# Altium footprint library 36103305S.PcbLib: 1 footprints
Each footprint in its own frame and in the unit in brackets; x right, y up, seen from the top. Pads: shape width x height; smd on the part's side, far side on the other; paste and mask are expansions set on the pad; w line width, h text height; cw(c..) or ccw(c..) is an arc to the next point about the centre after c.
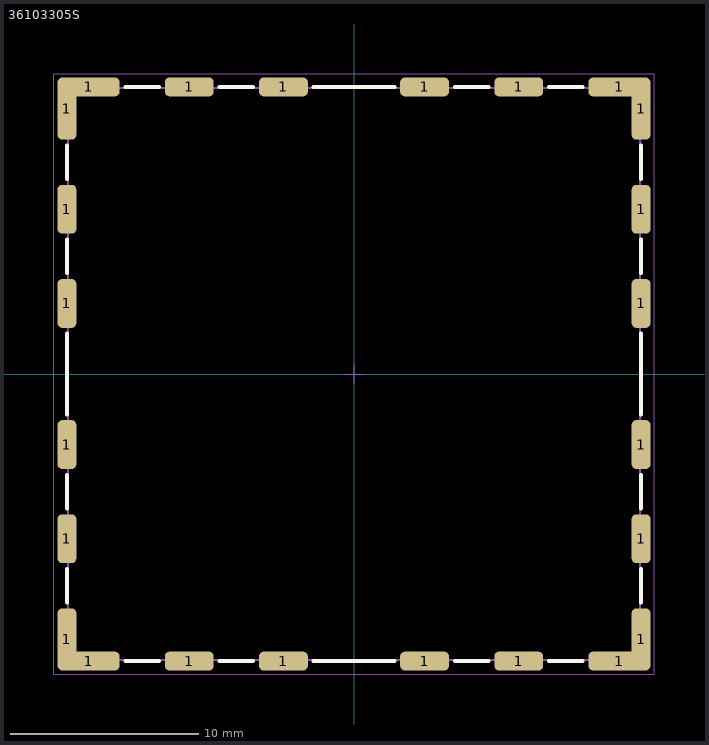
[diagram p0: the footprint, top view; thin cyan lines are the x and y axes]

## 36103305S [mm] "Shielding Cabinet, SMD Frame, 30.4x30.4mm"
height 3.3
pads (24):
  rrect50% 1x3.3 smd mask+0.1: 1(-15.25,-14.1) 1(-15.25,14.1) 1(15.25,-14.1) 1(15.25,14.1)
  rrect50% 1x2.6 smd mask+0.1: 1(-15.25,-8.75) 1(-15.25,-3.75) 1(-15.25,3.75) 1(-15.25,8.75) 1(15.25,-8.75) 1(15.25,-3.75) 1(15.25,3.75) 1(15.25,8.75)
  rrect50% 3.3x1 smd mask+0.1: 1(-14.1,-15.25) 1(-14.1,15.25) 1(14.1,-15.25) 1(14.1,15.25)
  rrect50% 2.6x1 smd mask+0.1: 1(-8.75,-15.25) 1(-8.75,15.25) 1(-3.75,-15.25) 1(-3.75,15.25) 1(3.75,-15.25) 1(3.75,15.25) 1(8.75,-15.25) 1(8.75,15.25)
Top Overlay:
  lines w0.2: -15.25,-12.15 -15.25,-10.35 ; -15.25,-7.15 -15.25,-5.35 ; -15.25,-2.15 -15.25,2.15 ; -15.25,5.35 -15.25,7.15 ; -15.25,10.35 -15.25,12.15 ; -12.15,-15.25 -10.35,-15.25 ; -12.15,15.25 -10.35,15.25 ; -7.15,-15.25 -5.35,-15.25 ; -7.15,15.25 -5.35,15.25 ; -2.15,-15.25 2.15,-15.25 ; -2.15,15.25 2.15,15.25 ; 5.35,-15.25 7.15,-15.25 ; 5.35,15.25 7.15,15.25 ; 10.35,-15.25 12.15,-15.25 ; 10.35,15.25 12.15,15.25 ; 15.25,-12.15 15.25,-10.35 ; 15.25,-7.15 15.25,-5.35 ; 15.25,-2.15 15.25,2.15 ; 15.25,5.35 15.25,7.15 ; 15.25,10.35 15.25,12.15
Top Assembly:
  lines w0.05: -0.5,0 0.5,0 ; 0,-0.5 0,0.5
  lines w0.1: -15.2,-15.2 -15.2,15.2 15.2,15.2 15.2,-15.2 -15.2,-15.2
Top Courtyard:
  lines w0.05: -15.95,-15.95 -15.95,15.95 15.95,15.95 15.95,-15.95 -15.95,-15.95
3D body "36103305S.stp": height 3.2, standoff 0, extent -15.2,-15.2 15.2,15.2